# Altium footprint library MAX262ACWG&plus_.PcbLib: 3 footprints
Each footprint in its own frame and in the unit in brackets; x right, y up, seen from the top. Pads: shape width x height; smd on the part's side, far side on the other; paste and mask are expansions set on the pad; w line width, h text height; cw(c..) or ccw(c..) is an arc to the next point about the centre after c.
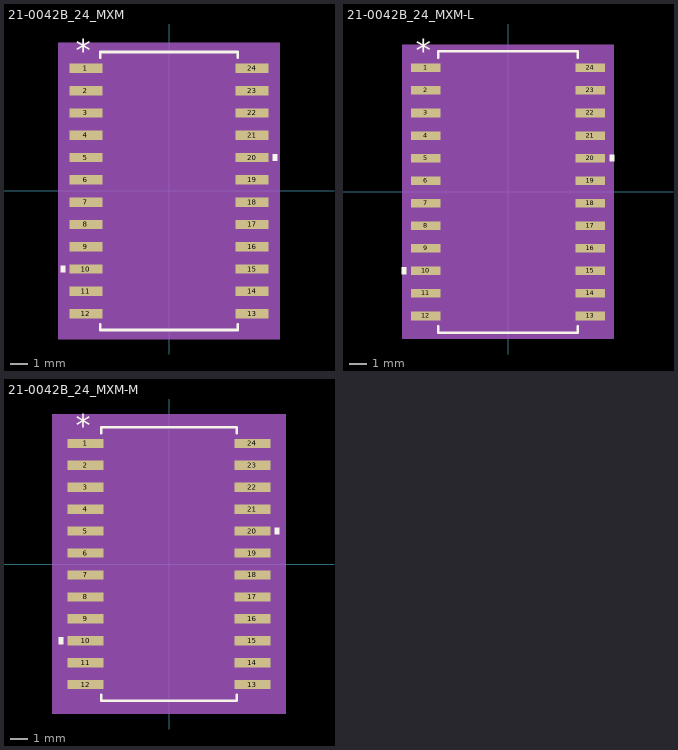
[diagram p0: the footprints below, top view; thin cyan lines are the x and y axes]

## 21-0042B_24_MXM [mil]
pads (24):
  rect 73.78x20.97 smd paste+0 mask+0: 1(-186.39,275) 2(-186.39,225) 3(-186.39,175) 4(-186.39,125) 5(-186.39,75) 6(-186.39,25) 7(-186.39,-25) 8(-186.39,-75) 9(-186.39,-125) 10(-186.39,-175) 11(-186.39,-225) 12(-186.39,-275) 13(186.39,-275) 14(186.39,-225) 15(186.39,-175) 16(186.39,-125) 17(186.39,-75) 18(186.39,-25) 19(186.39,25) 20(186.39,75) 21(186.39,125) 22(186.39,175) 23(186.39,225) 24(186.39,275)
Top Overlay:
  region: -233.28,-167.5 -243.28,-167.5 -243.28,-182.5 -233.28,-182.5
  region: 233.28,82.5 243.28,82.5 243.28,67.5 233.28,67.5
  lines w6: -154.5,-298.58 -154.5,-312 154.5,-312 154.5,-298.58 ; -154.5,298.58 -154.5,312 154.5,312 154.5,298.58
  text "*" at -208.89,290.97 h50
Mechanical 5:
  region: 248.28,-332 -248.28,-332 -248.28,332 248.28,332
Mechanical 13:
  lines w0: -12,307 ccw(c0,307) 12,307
  lines w1: -209.5,-284.5 -209.5,-265.5 -149.5,-265.5 -149.5,-284.5 -209.5,-284.5 ; -209.5,-234.5 -209.5,-215.5 -149.5,-215.5 -149.5,-234.5 -209.5,-234.5 ; -209.5,-184.5 -209.5,-165.5 -149.5,-165.5 -149.5,-184.5 -209.5,-184.5 ; -209.5,-134.5 -209.5,-115.5 -149.5,-115.5 -149.5,-134.5 -209.5,-134.5 ; -209.5,-84.5 -209.5,-65.5 -149.5,-65.5 -149.5,-84.5 -209.5,-84.5 ; -209.5,-34.5 -209.5,-15.5 -149.5,-15.5 -149.5,-34.5 -209.5,-34.5 ; -209.5,15.5 -209.5,34.5 -149.5,34.5 -149.5,15.5 -209.5,15.5 ; -209.5,65.5 -209.5,84.5 -149.5,84.5 -149.5,65.5 -209.5,65.5 ; -209.5,115.5 -209.5,134.5 -149.5,134.5 -149.5,115.5 -209.5,115.5 ; -209.5,165.5 -209.5,184.5 -149.5,184.5 -149.5,165.5 -209.5,165.5 ; -209.5,215.5 -209.5,234.5 -149.5,234.5 -149.5,215.5 -209.5,215.5 ; -209.5,265.5 -209.5,284.5 -149.5,284.5 -149.5,265.5 -209.5,265.5 ; -149.5,-307 149.5,-307 149.5,307 -149.5,307 -149.5,-307 ; 149.5,-284.5 149.5,-265.5 209.5,-265.5 209.5,-284.5 149.5,-284.5 ; 149.5,-234.5 149.5,-215.5 209.5,-215.5 209.5,-234.5 149.5,-234.5 ; 149.5,-184.5 149.5,-165.5 209.5,-165.5 209.5,-184.5 149.5,-184.5 ; 149.5,-134.5 149.5,-115.5 209.5,-115.5 209.5,-134.5 149.5,-134.5 ; 149.5,-84.5 149.5,-65.5 209.5,-65.5 209.5,-84.5 149.5,-84.5 ; 149.5,-34.5 149.5,-15.5 209.5,-15.5 209.5,-34.5 149.5,-34.5 ; 149.5,15.5 149.5,34.5 209.5,34.5 209.5,15.5 149.5,15.5 ; 149.5,65.5 149.5,84.5 209.5,84.5 209.5,65.5 149.5,65.5 ; 149.5,115.5 149.5,134.5 209.5,134.5 209.5,115.5 149.5,115.5 ; 149.5,165.5 149.5,184.5 209.5,184.5 209.5,165.5 149.5,165.5 ; 149.5,215.5 149.5,234.5 209.5,234.5 209.5,215.5 149.5,215.5 ; 149.5,265.5 149.5,284.5 209.5,284.5 209.5,265.5 149.5,265.5
  text "*" at -147,254 h50
Mechanical 15:
  region: -159.5,-295.48 -233.28,-295.48 -233.28,295.48 -159.5,295.48 -159.5,317 159.5,317 159.5,295.48 233.28,295.48 233.28,-295.48 159.5,-295.48 159.5,-317 -159.5,-317
  lines w6: -233.28,-295.48 -233.28,295.48 -159.5,295.48 -159.5,317 159.5,317 159.5,295.48 233.28,295.48 233.28,-295.48 159.5,-295.48 159.5,-317 -159.5,-317 -159.5,-295.48 -233.28,-295.48
3D body "21-0042B_24_MXM.step": height 104.09, standoff 0, extent -209.49,-307.01 209.49,307.01

## 21-0042B_24_MXM-L [mil]
pads (24):
  rect 65.75x19 smd paste+0 mask+0: 1(-182.53,275) 2(-182.53,225) 3(-182.53,175) 4(-182.53,125) 5(-182.53,75) 6(-182.53,25) 7(-182.53,-25) 8(-182.53,-75) 9(-182.53,-125) 10(-182.53,-175) 11(-182.53,-225) 12(-182.53,-275) 13(182.53,-275) 14(182.53,-225) 15(182.53,-175) 16(182.53,-125) 17(182.53,-75) 18(182.53,-25) 19(182.53,25) 20(182.53,75) 21(182.53,125) 22(182.53,175) 23(182.53,225) 24(182.53,275)
Top Overlay:
  region: -225.41,-167.5 -235.41,-167.5 -235.41,-182.5 -225.41,-182.5
  region: 225.41,82.5 235.41,82.5 235.41,67.5 225.41,67.5
  lines w6: -154.5,-297.6 -154.5,-312 154.5,-312 154.5,-297.6 ; -154.5,297.6 -154.5,312 154.5,312 154.5,297.6
  text "*" at -205.03,289 h50
Mechanical 5:
  region: 234.41,-326 -234.41,-326 -234.41,326 234.41,326
Mechanical 13:
  lines w0: -12,307 ccw(c0,307) 12,307
  lines w1: -209.5,-284.5 -209.5,-265.5 -149.5,-265.5 -149.5,-284.5 -209.5,-284.5 ; -209.5,-234.5 -209.5,-215.5 -149.5,-215.5 -149.5,-234.5 -209.5,-234.5 ; -209.5,-184.5 -209.5,-165.5 -149.5,-165.5 -149.5,-184.5 -209.5,-184.5 ; -209.5,-134.5 -209.5,-115.5 -149.5,-115.5 -149.5,-134.5 -209.5,-134.5 ; -209.5,-84.5 -209.5,-65.5 -149.5,-65.5 -149.5,-84.5 -209.5,-84.5 ; -209.5,-34.5 -209.5,-15.5 -149.5,-15.5 -149.5,-34.5 -209.5,-34.5 ; -209.5,15.5 -209.5,34.5 -149.5,34.5 -149.5,15.5 -209.5,15.5 ; -209.5,65.5 -209.5,84.5 -149.5,84.5 -149.5,65.5 -209.5,65.5 ; -209.5,115.5 -209.5,134.5 -149.5,134.5 -149.5,115.5 -209.5,115.5 ; -209.5,165.5 -209.5,184.5 -149.5,184.5 -149.5,165.5 -209.5,165.5 ; -209.5,215.5 -209.5,234.5 -149.5,234.5 -149.5,215.5 -209.5,215.5 ; -209.5,265.5 -209.5,284.5 -149.5,284.5 -149.5,265.5 -209.5,265.5 ; -149.5,-307 149.5,-307 149.5,307 -149.5,307 -149.5,-307 ; 149.5,-284.5 149.5,-265.5 209.5,-265.5 209.5,-284.5 149.5,-284.5 ; 149.5,-234.5 149.5,-215.5 209.5,-215.5 209.5,-234.5 149.5,-234.5 ; 149.5,-184.5 149.5,-165.5 209.5,-165.5 209.5,-184.5 149.5,-184.5 ; 149.5,-134.5 149.5,-115.5 209.5,-115.5 209.5,-134.5 149.5,-134.5 ; 149.5,-84.5 149.5,-65.5 209.5,-65.5 209.5,-84.5 149.5,-84.5 ; 149.5,-34.5 149.5,-15.5 209.5,-15.5 209.5,-34.5 149.5,-34.5 ; 149.5,15.5 149.5,34.5 209.5,34.5 209.5,15.5 149.5,15.5 ; 149.5,65.5 149.5,84.5 209.5,84.5 209.5,65.5 149.5,65.5 ; 149.5,115.5 149.5,134.5 209.5,134.5 209.5,115.5 149.5,115.5 ; 149.5,165.5 149.5,184.5 209.5,184.5 209.5,165.5 149.5,165.5 ; 149.5,215.5 149.5,234.5 209.5,234.5 209.5,215.5 149.5,215.5 ; 149.5,265.5 149.5,284.5 209.5,284.5 209.5,265.5 149.5,265.5
  text "*" at -147,254 h50
Mechanical 15:
  region: -153.5,-288.5 -219.41,-288.5 -219.41,288.5 -153.5,288.5 -153.5,311 153.5,311 153.5,288.5 219.41,288.5 219.41,-288.5 153.5,-288.5 153.5,-311 -153.5,-311
  lines w6: -219.41,-288.5 -219.41,288.5 -153.5,288.5 -153.5,311 153.5,311 153.5,288.5 219.41,288.5 219.41,-288.5 153.5,-288.5 153.5,-311 -153.5,-311 -153.5,-288.5 -219.41,-288.5
3D body "21-0042B_24_MXM.step": height 104.09, standoff 0, extent -209.49,-307.01 209.49,307.01

## 21-0042B_24_MXM-M [mil]
pads (24):
  rect 81.65x20.97 smd paste+0 mask+0: 1(-190.33,275) 2(-190.33,225) 3(-190.33,175) 4(-190.33,125) 5(-190.33,75) 6(-190.33,25) 7(-190.33,-25) 8(-190.33,-75) 9(-190.33,-125) 10(-190.33,-175) 11(-190.33,-225) 12(-190.33,-275) 13(190.33,-275) 14(190.33,-225) 15(190.33,-175) 16(190.33,-125) 17(190.33,-75) 18(190.33,-25) 19(190.33,25) 20(190.33,75) 21(190.33,125) 22(190.33,175) 23(190.33,225) 24(190.33,275)
Top Overlay:
  region: -241.15,-167.5 -251.15,-167.5 -251.15,-182.5 -241.15,-182.5
  region: 241.15,82.5 251.15,82.5 251.15,67.5 241.15,67.5
  lines w6: -154.5,-298.58 -154.5,-312 154.5,-312 154.5,-298.58 ; -154.5,298.58 -154.5,312 154.5,312 154.5,298.58
  text "*" at -212.83,290.97 h50
Mechanical 5:
  region: 266.15,-342 -266.15,-342 -266.15,342 266.15,342
Mechanical 13:
  lines w0: -12,307 ccw(c0,307) 12,307
  lines w1: -209.5,-284.5 -209.5,-265.5 -149.5,-265.5 -149.5,-284.5 -209.5,-284.5 ; -209.5,-234.5 -209.5,-215.5 -149.5,-215.5 -149.5,-234.5 -209.5,-234.5 ; -209.5,-184.5 -209.5,-165.5 -149.5,-165.5 -149.5,-184.5 -209.5,-184.5 ; -209.5,-134.5 -209.5,-115.5 -149.5,-115.5 -149.5,-134.5 -209.5,-134.5 ; -209.5,-84.5 -209.5,-65.5 -149.5,-65.5 -149.5,-84.5 -209.5,-84.5 ; -209.5,-34.5 -209.5,-15.5 -149.5,-15.5 -149.5,-34.5 -209.5,-34.5 ; -209.5,15.5 -209.5,34.5 -149.5,34.5 -149.5,15.5 -209.5,15.5 ; -209.5,65.5 -209.5,84.5 -149.5,84.5 -149.5,65.5 -209.5,65.5 ; -209.5,115.5 -209.5,134.5 -149.5,134.5 -149.5,115.5 -209.5,115.5 ; -209.5,165.5 -209.5,184.5 -149.5,184.5 -149.5,165.5 -209.5,165.5 ; -209.5,215.5 -209.5,234.5 -149.5,234.5 -149.5,215.5 -209.5,215.5 ; -209.5,265.5 -209.5,284.5 -149.5,284.5 -149.5,265.5 -209.5,265.5 ; -149.5,-307 149.5,-307 149.5,307 -149.5,307 -149.5,-307 ; 149.5,-284.5 149.5,-265.5 209.5,-265.5 209.5,-284.5 149.5,-284.5 ; 149.5,-234.5 149.5,-215.5 209.5,-215.5 209.5,-234.5 149.5,-234.5 ; 149.5,-184.5 149.5,-165.5 209.5,-165.5 209.5,-184.5 149.5,-184.5 ; 149.5,-134.5 149.5,-115.5 209.5,-115.5 209.5,-134.5 149.5,-134.5 ; 149.5,-84.5 149.5,-65.5 209.5,-65.5 209.5,-84.5 149.5,-84.5 ; 149.5,-34.5 149.5,-15.5 209.5,-15.5 209.5,-34.5 149.5,-34.5 ; 149.5,15.5 149.5,34.5 209.5,34.5 209.5,15.5 149.5,15.5 ; 149.5,65.5 149.5,84.5 209.5,84.5 209.5,65.5 149.5,65.5 ; 149.5,115.5 149.5,134.5 209.5,134.5 209.5,115.5 149.5,115.5 ; 149.5,165.5 149.5,184.5 209.5,184.5 209.5,165.5 149.5,165.5 ; 149.5,215.5 149.5,234.5 209.5,234.5 209.5,215.5 149.5,215.5 ; 149.5,265.5 149.5,284.5 209.5,284.5 209.5,265.5 149.5,265.5
  text "*" at -147,254 h50
Mechanical 15:
  region: -169.5,-305.48 -251.15,-305.48 -251.15,305.48 -169.5,305.48 -169.5,327 169.5,327 169.5,305.48 251.15,305.48 251.15,-305.48 169.5,-305.48 169.5,-327 -169.5,-327
  lines w6: -251.15,-305.48 -251.15,305.48 -169.5,305.48 -169.5,327 169.5,327 169.5,305.48 251.15,305.48 251.15,-305.48 169.5,-305.48 169.5,-327 -169.5,-327 -169.5,-305.48 -251.15,-305.48
3D body "21-0042B_24_MXM.step": height 104.09, standoff 0, extent -209.49,-307.01 209.49,307.01